# Altium schematic symbol library Interface_UART.SchLib: 133 symbols (part 1 of 2)
Pins are listed as number, name and electrical type; pins without a type are passive.

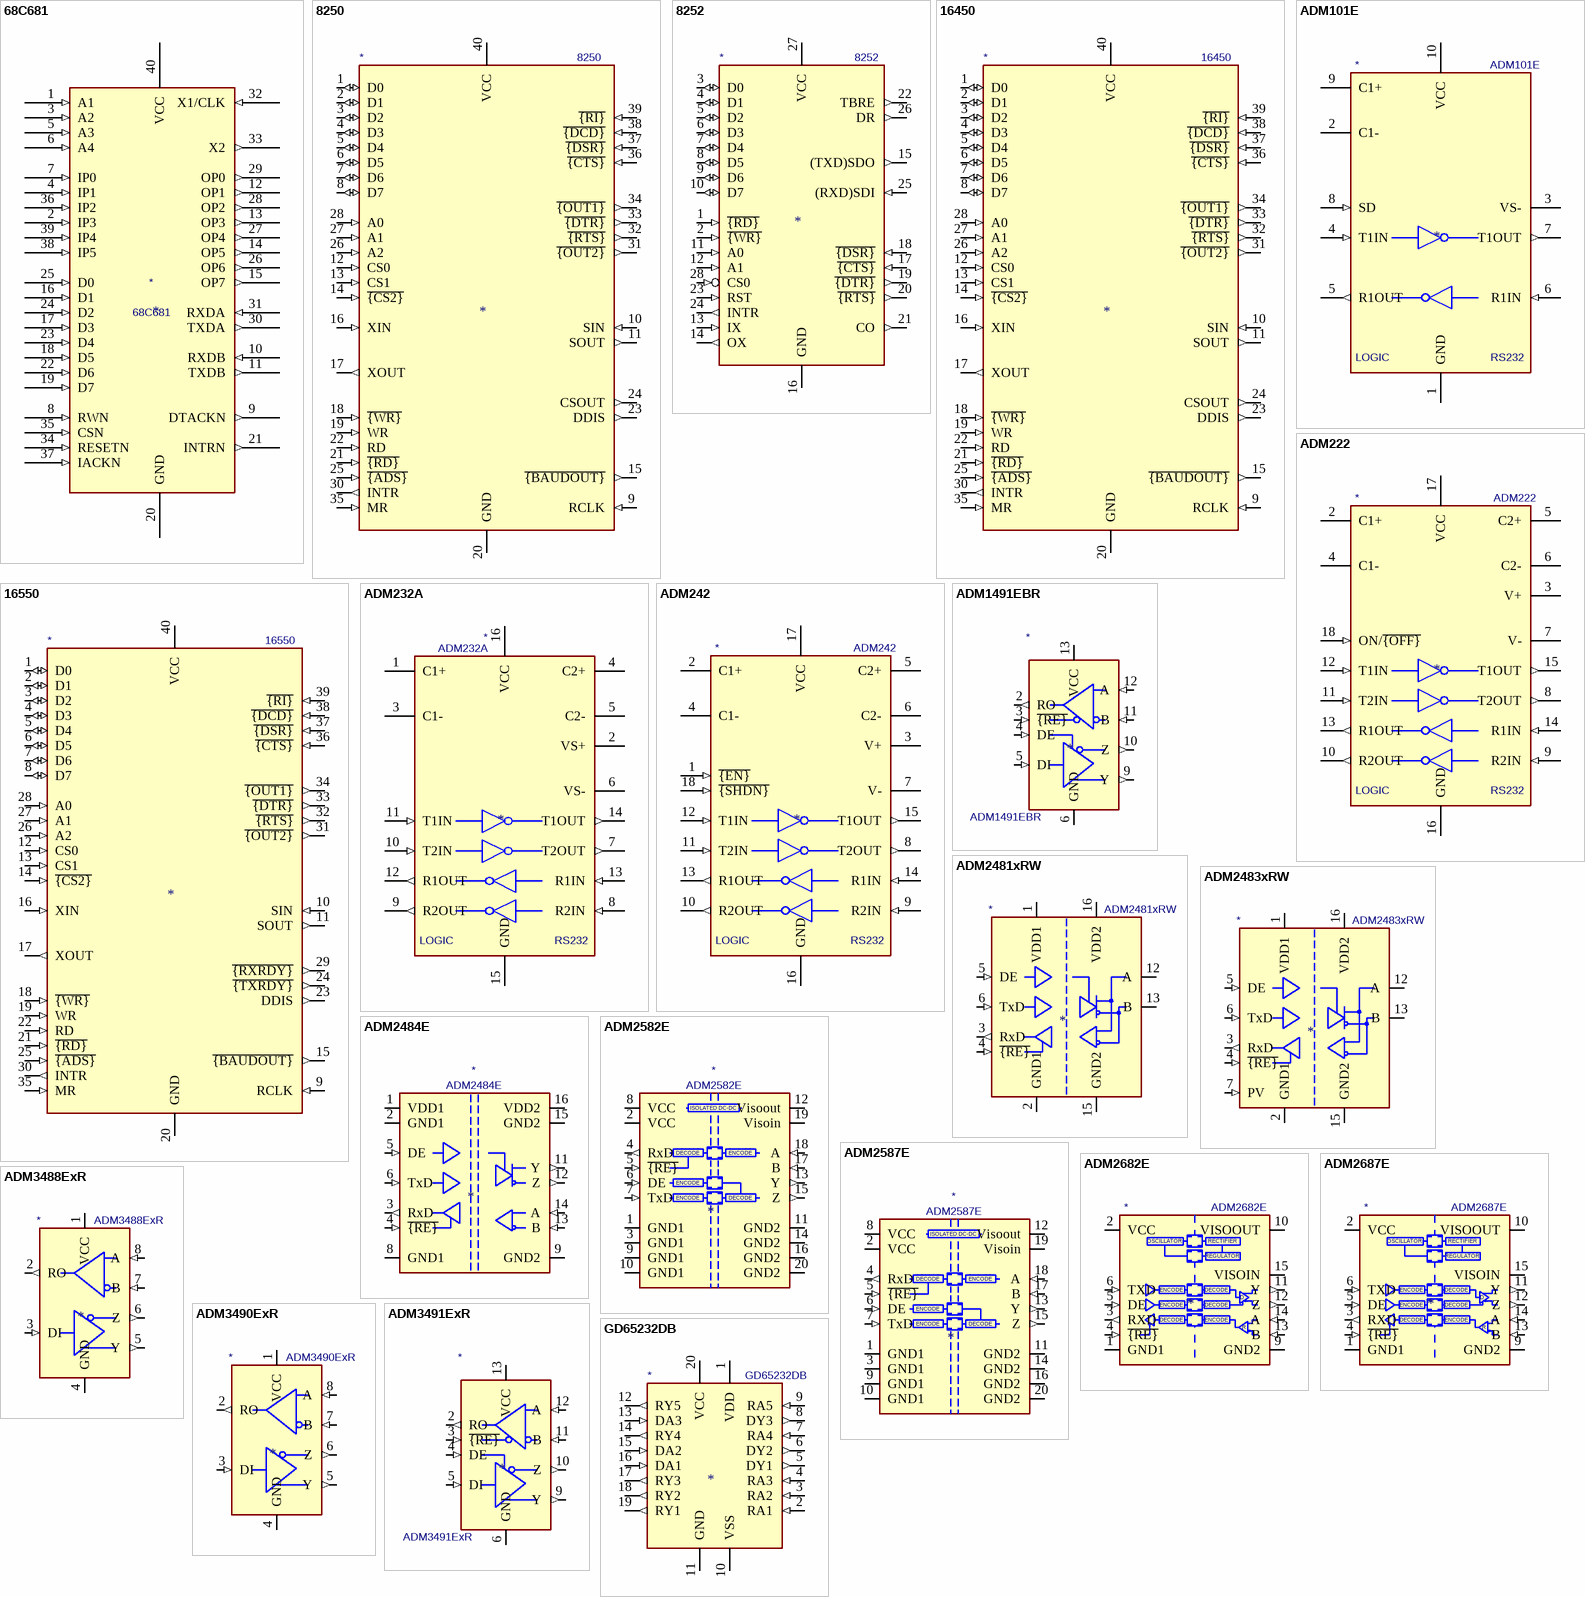
[diagram p0: symbols 68C681 to GD65232DB]

## 68C681
designator *  value 68C681
ki_keywords: UART serial; ki_description: CMOS Dual Channel UART; Supplier: https://www.elektronik.ropla.eu/pdf/stock/exa/xr68c681.pdf
pins: 1 A1 (in), 2 IP3 (in), 3 A2 (in), 4 IP1 (in), 5 A3 (in), 6 A4 (in), 7 IP0 (in), 8 RWN (in), 9 DTACKN (out), 10 RXDB (in), 11 TXDB (out), 12 OP1 (out), 13 OP3 (out), 14 OP5 (out), 15 OP7 (out), 16 D1 (in), 17 D3 (in), 18 D5 (in), 19 D7 (in), 20 GND (power), 21 INTRN (out), 22 D6 (in), 23 D4 (in), 24 D2 (in), 25 D0 (in), 26 OP6 (out), 27 OP4 (out), 28 OP2 (out), 29 OP0 (out), 30 TXDA (out), 31 RXDA (in), 32 X1/CLK (in), 33 X2 (out), 34 RESETN (in), 35 CSN (in), 36 IP2 (in), 37 IACKN (in), 38 IP5 (in), 39 IP4 (in), 40 VCC (power)

## 8250
designator *  value 8250
ki_keywords: 1ch UART; ki_description: PC8250A, Universal Asynchronous Receiver/Transmitter, PDIP-40; ki_fp_filters: DIP*W15.24mm*; Footprint: Package_DIP:DIP-40_W15.24mm
footprint DIP-40_W15.24mm
pins: 1 D0 (io), 2 D1 (io), 3 D2 (io), 4 D3 (io), 5 D4 (io), 6 D5 (io), 7 D6 (io), 8 D7 (io), 9 RCLK (in), 10 SIN (in), 11 SOUT (out), 12 CS0 (in), 13 CS1 (in), 14 ~{{CS2}} (in), 15 ~{{BAUDOUT}} (out), 16 XIN (in), 17 XOUT (out), 18 ~{{WR}} (in), 19 WR (in), 20 GND (power), 21 ~{{RD}} (in), 22 RD (in), 23 DDIS (out), 24 CSOUT (out), 25 ~{{ADS}} (in), 26 A2 (in), 27 A1 (in), 28 A0 (in), 30 INTR (out), 31 ~{{OUT2}} (out), 32 ~{{RTS}} (out), 33 ~{{DTR}} (out), 34 ~{{OUT1}} (out), 35 MR (in), 36 ~{{CTS}} (in), 37 ~{{DSR}} (in), 38 ~{{DCD}} (in), 39 ~{{RI}} (in), 40 VCC (power)

## 8252
designator *  value 8252
ki_keywords: UART Serial Interface; ki_description: Universal Asynchronous Receiver/Transmitter, PDIP-28; ki_fp_filters: DIP*W15.24mm*; Footprint: Package_DIP:DIP-28_W15.24mm
footprint DIP-28_W15.24mm
pins: 1 ~{{RD}} (in), 2 ~{{WR}} (in), 3 D0 (io), 4 D1 (io), 5 D2 (io), 6 D3 (io), 7 D4 (io), 8 D5 (io), 9 D6 (io), 10 D7 (io), 11 A0 (in), 12 A1 (in), 13 IX (in), 14 OX (out), 15 (TXD)SDO (out), 16 GND (power), 17 ~{{CTS}} (in), 18 ~{{DSR}} (in), 19 ~{{DTR}} (out), 20 ~{{RTS}} (out), 21 CO (out), 22 TBRE (out), 23 RST (in), 24 INTR (out), 25 (RXD)SDI (in), 26 DR (out), 27 VCC (power), 28 CS0 (in)

## 16450
designator *  value 16450
ki_keywords: 1ch UART; ki_description: PC16450, Universal Asynchronous Receiver/Transmitter, PDIP-40; ki_fp_filters: DIP*W15.24mm*; Footprint: Package_DIP:DIP-40_W15.24mm
footprint DIP-40_W15.24mm
pins: 1 D0 (io), 2 D1 (io), 3 D2 (io), 4 D3 (io), 5 D4 (io), 6 D5 (io), 7 D6 (io), 8 D7 (io), 9 RCLK (in), 10 SIN (in), 11 SOUT (out), 12 CS0 (in), 13 CS1 (in), 14 ~{{CS2}} (in), 15 ~{{BAUDOUT}} (out), 16 XIN (in), 17 XOUT (out), 18 ~{{WR}} (in), 19 WR (in), 20 GND (power), 21 ~{{RD}} (in), 22 RD (in), 23 DDIS (out), 24 CSOUT (out), 25 ~{{ADS}} (in), 26 A2 (in), 27 A1 (in), 28 A0 (in), 30 INTR (out), 31 ~{{OUT2}} (out), 32 ~{{RTS}} (out), 33 ~{{DTR}} (out), 34 ~{{OUT1}} (out), 35 MR (in), 36 ~{{CTS}} (in), 37 ~{{DSR}} (in), 38 ~{{DCD}} (in), 39 ~{{RI}} (in), 40 VCC (power)

## 16550
designator *  value 16550
ki_keywords: 1ch UART FIFO; ki_description: PC16550D, Universal Asynchronous Receiver/Transmitter with FIFOs, PDIP-40; ki_fp_filters: DIP*W15.24mm*; Footprint: Package_DIP:DIP-40_W15.24mm; Supplier: http://www.ti.com/lit/ds/symlink/pc16550d.pdf
footprint DIP-40_W15.24mm
pins: 1 D0 (io), 2 D1 (io), 3 D2 (io), 4 D3 (io), 5 D4 (io), 6 D5 (io), 7 D6 (io), 8 D7 (io), 9 RCLK (in), 10 SIN (in), 11 SOUT (out), 12 CS0 (in), 13 CS1 (in), 14 ~{{CS2}} (in), 15 ~{{BAUDOUT}} (out), 16 XIN (in), 17 XOUT (out), 18 ~{{WR}} (in), 19 WR (in), 20 GND (power), 21 ~{{RD}} (in), 22 RD (in), 23 DDIS (out), 24 ~{{TXRDY}} (out), 25 ~{{ADS}} (in), 26 A2 (in), 27 A1 (in), 28 A0 (in), 29 ~{{RXRDY}} (out), 30 INTR (out), 31 ~{{OUT2}} (out), 32 ~{{RTS}} (out), 33 ~{{DTR}} (out), 34 ~{{OUT1}} (out), 35 MR (in), 36 ~{{CTS}} (in), 37 ~{{DSR}} (in), 38 ~{{DCD}} (in), 39 ~{{RI}} (in), 40 VCC (power)

## ADM101E
designator *  value ADM101E
ki_keywords: rs232 uart transceiver line-driver; ki_description: Single RS232 driver/receiver, 5V supply, 460kb/s; ki_fp_filters: MSOP*; Footprint: Package_SO:MSOP-10_3x3mm_P0.5mm; Supplier: https://www.analog.com/media/en/technical-documentation/data-sheets/ADM101E.pdf
footprint MSOP-10_3x3mm_P0.5mm
pins: 1 GND (power), 2 C1-, 3 VS- (power), 4 T1IN (in), 5 R1OUT (out), 6 R1IN (in), 7 T1OUT (out), 8 SD (in), 9 C1+, 10 VCC (power)
text: LOGIC; RS232

## ADM222
designator *  value ADM222
ki_keywords: rs232 uart transceiver; ki_description: Dual RS232 driver/receiver, 5V supply, 200kb/s; ki_fp_filters: SO* DIP*W7.62mm*; Supplier: https://www.analog.com/media/en/technical-documentation/data-sheets/ADM222_232A_242.pdf
pins: 1 NC (in) hidden, 2 C1+, 3 V+ (power), 4 C1-, 5 C2+, 6 C2-, 7 V- (power), 8 T2OUT (out), 9 R2IN (in), 10 R2OUT (out), 11 T2IN (in), 12 T1IN (in), 13 R1OUT (out), 14 R1IN (in), 15 T1OUT (out), 16 GND (power), 17 VCC (power), 18 ON/~{{OFF}} (in)
text: LOGIC; RS232

## ADM232A
designator *  value ADM232A
ki_keywords: rs232 uart transceiver line-driver; ki_description: Dual RS232 driver/receiver, 5V supply, 200kb/s; ki_fp_filters: SOIC*P1.27mm* DIP*W7.62mm* TSSOP*4.4x5mm*P0.65mm*; Supplier: https://www.analog.com/media/en/technical-documentation/data-sheets/ADM222_232A_242.pdf
pins: 1 C1+, 2 VS+ (power), 3 C1-, 4 C2+, 5 C2-, 6 VS- (power), 7 T2OUT (out), 8 R2IN (in), 9 R2OUT (out), 10 T2IN (in), 11 T1IN (in), 12 R1OUT (out), 13 R1IN (in), 14 T1OUT (out), 15 GND (power), 16 VCC (power)
text: LOGIC; RS232

## ADM242
designator *  value ADM242
ki_keywords: rs232 uart transceiver; ki_description: Dual RS232 driver/receiver, 5V supply, 200kb/s, separate shutdown/enable pins; ki_fp_filters: SO* DIP*W7.62mm*; Supplier: https://www.analog.com/media/en/technical-documentation/data-sheets/ADM222_232A_242.pdf
pins: 1 ~{{EN}} (in), 2 C1+, 3 V+ (power), 4 C1-, 5 C2+, 6 C2-, 7 V- (power), 8 T2OUT (out), 9 R2IN (in), 10 R2OUT (out), 11 T2IN (in), 12 T1IN (in), 13 R1OUT (out), 14 R1IN (in), 15 T1OUT (out), 16 GND (power), 17 VCC (power), 18 ~{{SHDN}} (in)
text: LOGIC; RS232

## ADM1491EBR
designator *  value ADM1491EBR
ki_keywords: RS485 RS422 transceiver full duplex; ki_description: RS-485, RS-422 full duplex 16Mbps transceiver, SOIC-14; ki_fp_filters: SOIC*3.9x8.7mm*P1.27mm*; Footprint: Package_SO:SOIC-14_3.9x8.7mm_P1.27mm; Supplier: https://www.analog.com/media/en/technical-documentation/data-sheets/ADM1490E_1491E.pdf
footprint SOIC-14_3.9x8.7mm_P1.27mm
pins: 1 NC (in) hidden, 2 RO (out), 3 ~{{RE}} (in), 4 DE (in), 5 DI (in), 6 GND (power), 7 GND hidden, 8 NC (in) hidden, 9 Y (out), 10 Z (out), 11 B (in), 12 A (in), 13 VCC (power), 14 VCC hidden

## ADM2481xRW
designator *  value ADM2481xRW
ki_keywords: rs-485 rs-422 eia485 eia-485 eia422 eia-422 serial differential; ki_description: Isolated RS485/RS422 Transceiver, Half-Duplex, 500kbps, SOIC-16W; ki_fp_filters: SOIC*7.5x10.3mm*P1.27mm*; Footprint: Package_SO:SOIC-16W_7.5x10.3mm_P1.27mm; Supplier: https://www.analog.com/media/en/technical-documentation/data-sheets/adm2481.pdf
footprint SOIC-16W_7.5x10.3mm_P1.27mm
pins: 1 VDD1 (power), 2 GND1 (power), 3 RxD (out), 4 ~{{RE}} (in), 5 DE (in), 6 TxD (in), 7 GND1 hidden, 8 GND1 hidden, 9 GND2 hidden, 10 GND2 hidden, 11 NC (in) hidden, 12 A (io), 13 B (io), 14 NC (in) hidden, 15 GND2 (power), 16 VDD2 (power)

## ADM2483xRW
designator *  value ADM2483xRW
ki_keywords: rs-485 rs-422 eia485 eia-485 eia422 eia-422 serial differential; ki_description: Isolated RS485/RS422 Transceiver, Half-Duplex, 500kbps, SOIC-16W; ki_fp_filters: SOIC*7.5x10.3mm*P1.27mm*; Footprint: Package_SO:SOIC-16W_7.5x10.3mm_P1.27mm; Supplier: https://www.analog.com/media/en/technical-documentation/data-sheets/adm2483.pdf
footprint SOIC-16W_7.5x10.3mm_P1.27mm
pins: 1 VDD1 (power), 2 GND1 (power), 3 RxD (out), 4 ~{{RE}} (in), 5 DE (in), 6 TxD (in), 7 PV (in), 8 GND1 hidden, 9 GND2 hidden, 10 NC (in) hidden, 11 NC (in) hidden, 12 A (io), 13 B (io), 14 NC (in) hidden, 15 GND2 (power), 16 VDD2 (power)

## ADM2484E
designator *  value ADM2484E
ki_keywords: RS485 Transceiver RS422 Transceiver; ki_description: Isolated RS485/RS422 Transceiver, Half-/Full-Duplex, 500kbps,SOIC-16W; ki_fp_filters: SOIC*7.5x10.3mm*P1.27mm*; Footprint: Package_SO:SOIC-16W_7.5x10.3mm_P1.27mm; Supplier: https://www.analog.com/media/en/technical-documentation/data-sheets/ADM2484E.pdf
footprint SOIC-16W_7.5x10.3mm_P1.27mm
pins: 1 VDD1 (power), 2 GND1 (power), 3 RxD (out), 4 ~{{RE}} (in), 5 DE (in), 6 TxD (in), 7 NC (in) hidden, 8 GND1 (power), 9 GND2 (power), 10 NC (in) hidden, 11 Y (out), 12 Z (out), 13 B (in), 14 A (in), 15 GND2 (power), 16 VDD2 (power)

## ADM2582E
designator *  value ADM2582E
ki_keywords: RS485 Transceiver,RS422 Transceiver; ki_description: Isolated RS485/RS422 Transceiver,Integrated Isolated DC-DC Converter, 16Mbps,SO-20; ki_fp_filters: SOIC*7.5x12.8mm*P1.27mm*; Footprint: Package_SO:SOIC-20W_7.5x12.8mm_P1.27mm; Supplier: www.analog.com/media/en/technical-documentation/data-sheets/ADM2582E_2587E.pdf
footprint SOIC-20W_7.5x12.8mm_P1.27mm
pins: 1 GND1 (power), 2 VCC (power), 3 GND1 (power), 4 RxD (out), 5 ~{{RE}} (in), 6 DE (in), 7 TxD (in), 8 VCC (power), 9 GND1 (power), 10 GND1 (power), 11 GND2 (power), 12 Visoout (power), 13 Y (out), 14 GND2 (power), 15 Z (out), 16 GND2 (power), 17 B (in), 18 A (in), 19 Visoin (power), 20 GND2 (power)
text: ISOLATED DC-DC; DECODE; ENCODE

## ADM2587E
designator *  value ADM2587E
ki_keywords: RS485 Transceiver,RS422 Transceiver; ki_description: Isolated RS485/RS422 Transceiver,Integrated Isolated DC-DC Converter, 500kbps,SO-20; ki_fp_filters: SOIC*7.5x12.8mm*P1.27mm*; Footprint: Package_SO:SOIC-20W_7.5x12.8mm_P1.27mm; Supplier: www.analog.com/media/en/technical-documentation/data-sheets/ADM2582E_2587E.pdf
footprint SOIC-20W_7.5x12.8mm_P1.27mm
pins: 1 GND1 (power), 2 VCC (power), 3 GND1 (power), 4 RxD (out), 5 ~{{RE}} (in), 6 DE (in), 7 TxD (in), 8 VCC (power), 9 GND1 (power), 10 GND1 (power), 11 GND2 (power), 12 Visoout (power), 13 Y (out), 14 GND2 (power), 15 Z (out), 16 GND2 (power), 17 B (in), 18 A (in), 19 Visoin (power), 20 GND2 (power)
text: ISOLATED DC-DC; DECODE; ENCODE

## ADM2682E
designator *  value ADM2682E
ki_keywords: RS485 Transceiver, RS422 Transceiver, Isopower; ki_description: Isolated RS485/RS422 Transceiver, Integrated Isolated DC-DC Converter, 16Mbps, SOIC-16W; ki_fp_filters: SOIC*7.5x12.8mm*P1.27mm*; Footprint: Package_SO:SOIC-16W_7.5x12.8mm_P1.27mm; Supplier: https://www.analog.com/media/en/technical-documentation/data-sheets/ADM2682E_2687E.pdf
footprint SOIC-16W_7.5x12.8mm_P1.27mm
pins: 1 GND1 (power), 2 VCC (power), 3 RXD (out), 4 ~{{RE}} (in), 5 DE (in), 6 TXD (in), 7 VCC hidden, 8 GND1 hidden, 9 GND2 (power), 10 VISOOUT (power), 11 Y (out), 12 Z (out), 13 B (in), 14 A (in), 15 VISOIN (power), 16 GND2 hidden
text: OSCILLATOR; RECTIFIER; REGULATOR; ENCODE; DECODE; D; R

## ADM2687E
designator *  value ADM2687E
ki_keywords: RS485 Transceiver, RS422 Transceiver, Isopower; ki_description: Isolated RS485/RS422 Transceiver, Integrated Isolated DC-DC Converter, 500kbps, SOIC-16W; ki_fp_filters: SOIC*7.5x12.8mm*P1.27mm*; Footprint: Package_SO:SOIC-16W_7.5x12.8mm_P1.27mm; Supplier: https://www.analog.com/media/en/technical-documentation/data-sheets/ADM2682E_2687E.pdf
footprint SOIC-16W_7.5x12.8mm_P1.27mm
pins: 1 GND1 (power), 2 VCC (power), 3 RXD (out), 4 ~{{RE}} (in), 5 DE (in), 6 TXD (in), 7 VCC hidden, 8 GND1 hidden, 9 GND2 (power), 10 VISOOUT (power), 11 Y (out), 12 Z (out), 13 B (in), 14 A (in), 15 VISOIN (power), 16 GND2 hidden
text: OSCILLATOR; RECTIFIER; REGULATOR; ENCODE; DECODE; D; R

## ADM3488ExR
designator *  value ADM3488ExR
ki_keywords: RS485 RS422 transceiver full duplex; ki_description: RS-485, RS-422 full duplex 250 kbps transceiver, SOIC-8; ki_fp_filters: SOIC*3.9x4.9mm*P1.27mm*; Footprint: Package_SO:SOIC-8_3.9x4.9mm_P1.27mm; Supplier: https://www.analog.com/media/en/technical-documentation/data-sheets/ADM3483E_3486E_3488E_3490E_3491E.pdf
footprint SOIC-8_3.9x4.9mm_P1.27mm
pins: 1 VCC (power), 2 RO (out), 3 DI (in), 4 GND (power), 5 Y (out), 6 Z (out), 7 B (in), 8 A (in)

## ADM3490ExR
designator *  value ADM3490ExR
ki_keywords: RS485 RS422 transceiver full duplex; ki_description: RS-485, RS-422 full duplex 12 Mbps transceiver, SOIC-8; ki_fp_filters: SOIC*3.9x4.9mm*P1.27mm*; Footprint: Package_SO:SOIC-8_3.9x4.9mm_P1.27mm; Supplier: https://www.analog.com/media/en/technical-documentation/data-sheets/ADM3483E_3486E_3488E_3490E_3491E.pdf
footprint SOIC-8_3.9x4.9mm_P1.27mm
pins: 1 VCC (power), 2 RO (out), 3 DI (in), 4 GND (power), 5 Y (out), 6 Z (out), 7 B (in), 8 A (in)

## ADM3491ExR
designator *  value ADM3491ExR
ki_keywords: RS485 RS422 transceiver full duplex; ki_description: RS-485, RS-422 full duplex 12 Mbps transceiver, SOIC-14; ki_fp_filters: SOIC*3.9x8.7mm*P1.27mm*; Footprint: Package_SO:SOIC-14_3.9x8.7mm_P1.27mm; Supplier: https://www.analog.com/media/en/technical-documentation/data-sheets/ADM3483E_3486E_3488E_3490E_3491E.pdf
footprint SOIC-14_3.9x8.7mm_P1.27mm
pins: 1 NC (in) hidden, 2 RO (out), 3 ~{{RE}} (in), 4 DE (in), 5 DI (in), 6 GND (power), 7 GND hidden, 8 NC (in) hidden, 9 Y (out), 10 Z (out), 11 B (in), 12 A (in), 13 VCC (power), 14 VCC hidden

## GD65232DB
designator *  value GD65232DB
ki_keywords: RS232 UART Driver Receiver Interface; ki_description: Multiple RS-232 Driver and Receiver, SSOP-20; ki_fp_filters: SSOP*4.4x6.5mm*P0.65mm*; Footprint: Package_SO:SSOP-20_4.4x6.5mm_P0.65mm; Supplier: http://www.ti.com/lit/ds/symlink/gd75232.pdf
footprint SSOP-20_4.4x6.5mm_P0.65mm
pins: 1 VDD (power), 2 RA1 (in), 3 RA2 (in), 4 RA3 (in), 5 DY1 (out), 6 DY2 (out), 7 RA4 (in), 8 DY3 (out), 9 RA5 (in), 10 VSS (power), 11 GND (power), 12 RY5 (out), 13 DA3 (in), 14 RY4 (out), 15 DA2 (in), 16 DA1 (in), 17 RY3 (out), 18 RY2 (out), 19 RY1 (out), 20 VCC (power)

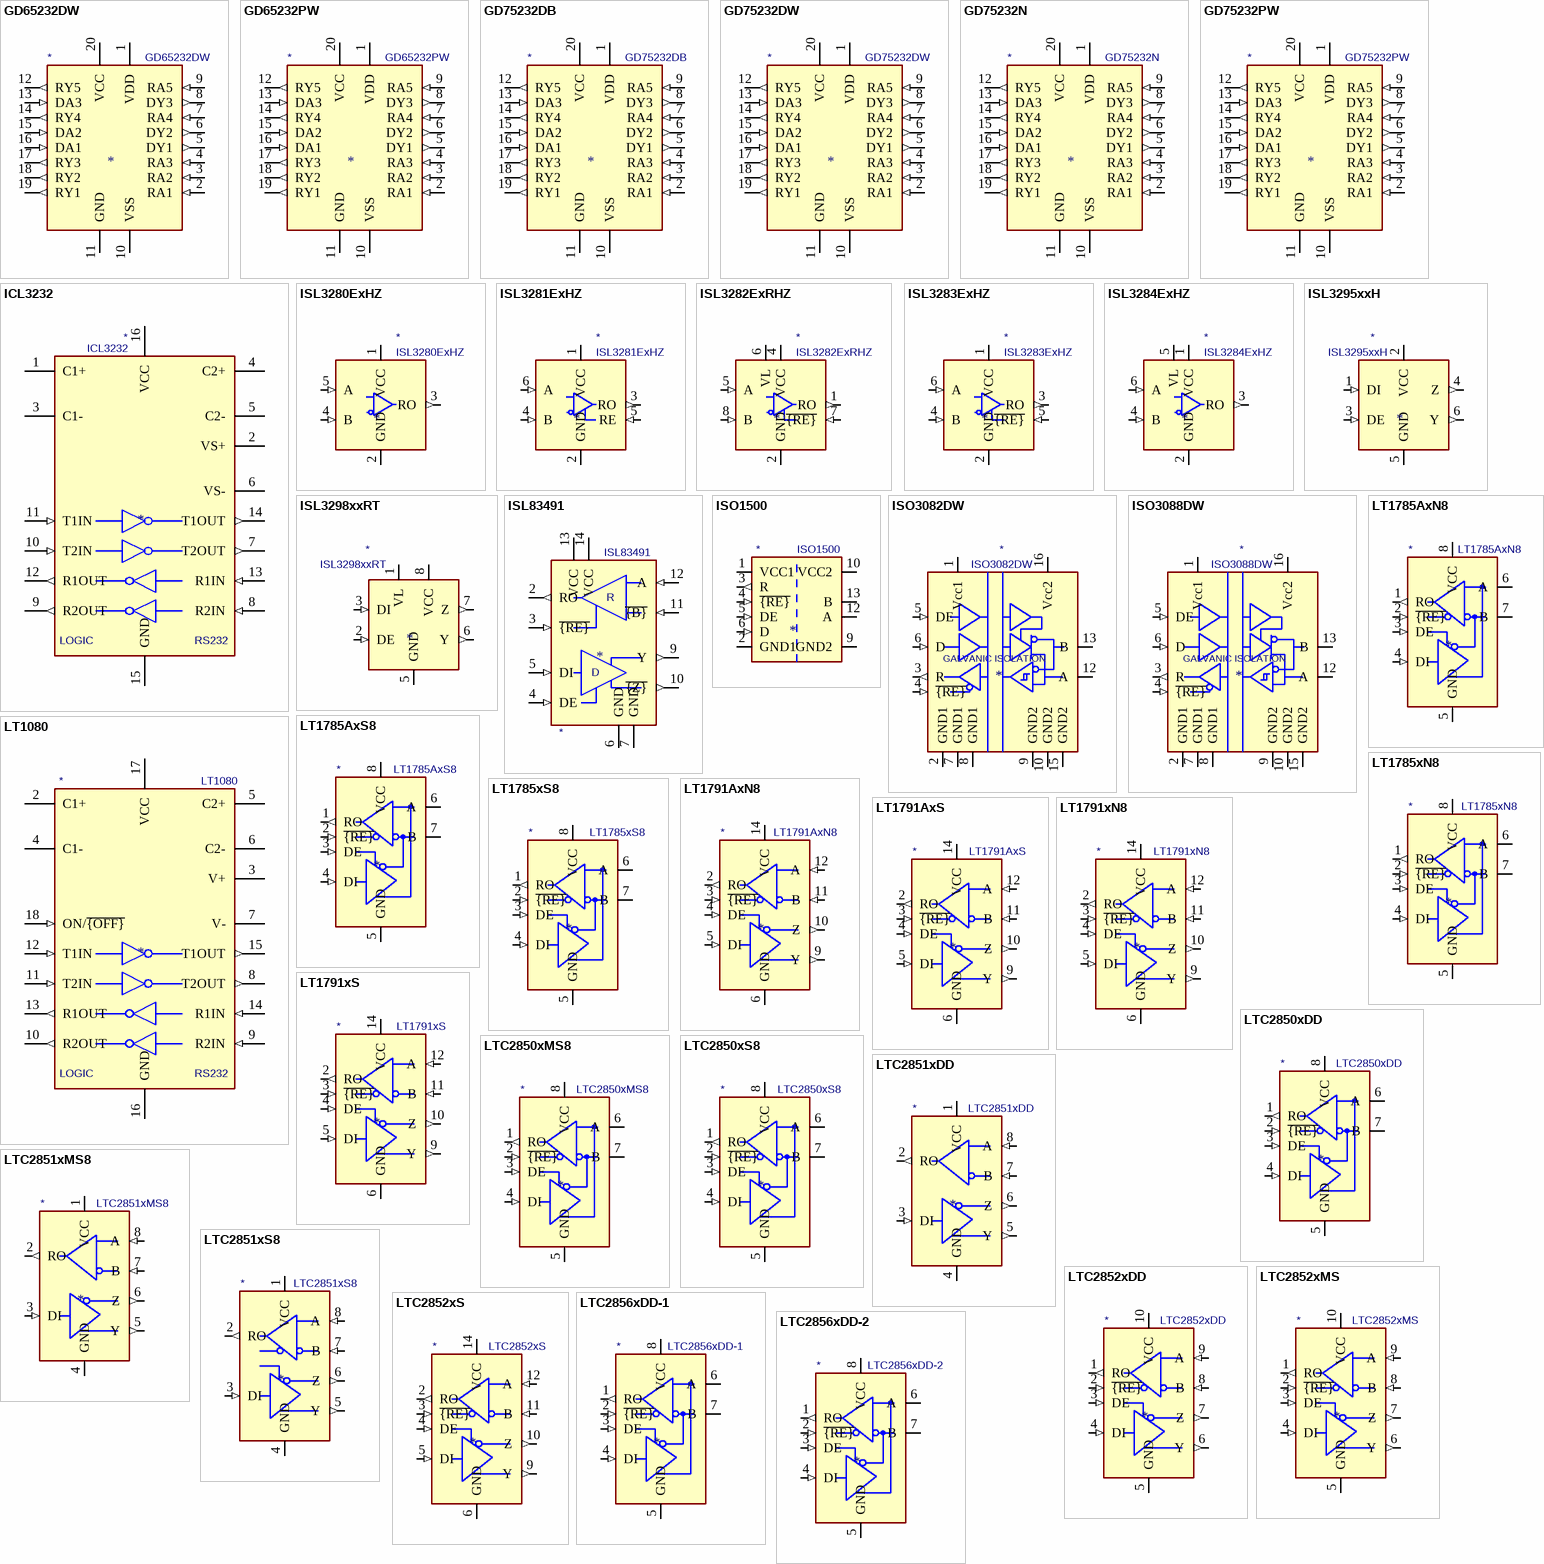
[diagram p1: symbols GD65232DW to LTC2856xDD-2]

## GD65232DW
designator *  value GD65232DW
ki_keywords: RS232 UART Driver Receiver Interface; ki_description: Multiple RS-232 Driver and Receiver, SOIC-20; ki_fp_filters: SOIC*7.5x12.8mm*P1.27mm*; Footprint: Package_SO:SOIC-20W_7.5x12.8mm_P1.27mm; Supplier: http://www.ti.com/lit/ds/symlink/gd75232.pdf
footprint SOIC-20W_7.5x12.8mm_P1.27mm
pins: 1 VDD (power), 2 RA1 (in), 3 RA2 (in), 4 RA3 (in), 5 DY1 (out), 6 DY2 (out), 7 RA4 (in), 8 DY3 (out), 9 RA5 (in), 10 VSS (power), 11 GND (power), 12 RY5 (out), 13 DA3 (in), 14 RY4 (out), 15 DA2 (in), 16 DA1 (in), 17 RY3 (out), 18 RY2 (out), 19 RY1 (out), 20 VCC (power)

## GD65232PW
designator *  value GD65232PW
ki_keywords: RS232 UART Driver Receiver Interface; ki_description: Multiple RS-232 Driver and Receiver, TSSOP-20; ki_fp_filters: TSSOP*; Footprint: Package_SO:TSSOP-20_4.4x6.5mm_P0.65mm; Supplier: http://www.ti.com/lit/ds/symlink/gd75232.pdf
footprint TSSOP-20_4.4x6.5mm_P0.65mm
pins: 1 VDD (power), 2 RA1 (in), 3 RA2 (in), 4 RA3 (in), 5 DY1 (out), 6 DY2 (out), 7 RA4 (in), 8 DY3 (out), 9 RA5 (in), 10 VSS (power), 11 GND (power), 12 RY5 (out), 13 DA3 (in), 14 RY4 (out), 15 DA2 (in), 16 DA1 (in), 17 RY3 (out), 18 RY2 (out), 19 RY1 (out), 20 VCC (power)

## GD75232DB
designator *  value GD75232DB
ki_keywords: RS232 UART Driver Receiver Interface; ki_description: Multiple RS-232 Driver and Receiver, SSOP-20; ki_fp_filters: SSOP*4.4x6.5mm*P0.65mm*; Footprint: Package_SO:SSOP-20_4.4x6.5mm_P0.65mm; Supplier: http://www.ti.com/lit/ds/symlink/gd75232.pdf
footprint SSOP-20_4.4x6.5mm_P0.65mm
pins: 1 VDD (power), 2 RA1 (in), 3 RA2 (in), 4 RA3 (in), 5 DY1 (out), 6 DY2 (out), 7 RA4 (in), 8 DY3 (out), 9 RA5 (in), 10 VSS (power), 11 GND (power), 12 RY5 (out), 13 DA3 (in), 14 RY4 (out), 15 DA2 (in), 16 DA1 (in), 17 RY3 (out), 18 RY2 (out), 19 RY1 (out), 20 VCC (power)

## GD75232DW
designator *  value GD75232DW
ki_keywords: RS232 UART Driver Receiver Interface; ki_description: Multiple RS-232 Driver and Receiver, SOIC-20; ki_fp_filters: SOIC*7.5x12.8mm*P1.27mm*; Footprint: Package_SO:SOIC-20W_7.5x12.8mm_P1.27mm; Supplier: http://www.ti.com/lit/ds/symlink/gd75232.pdf
footprint SOIC-20W_7.5x12.8mm_P1.27mm
pins: 1 VDD (power), 2 RA1 (in), 3 RA2 (in), 4 RA3 (in), 5 DY1 (out), 6 DY2 (out), 7 RA4 (in), 8 DY3 (out), 9 RA5 (in), 10 VSS (power), 11 GND (power), 12 RY5 (out), 13 DA3 (in), 14 RY4 (out), 15 DA2 (in), 16 DA1 (in), 17 RY3 (out), 18 RY2 (out), 19 RY1 (out), 20 VCC (power)

## GD75232N
designator *  value GD75232N
ki_keywords: RS232 UART Driver Receiver Interface; ki_description: Multiple RS-232 Driver and Receiver, DIP-20; ki_fp_filters: DIP*W7.62mm*; Footprint: Package_DIP:DIP-20_W7.62mm; Supplier: http://www.ti.com/lit/ds/symlink/gd75232.pdf
footprint DIP-20_W7.62mm
pins: 1 VDD (power), 2 RA1 (in), 3 RA2 (in), 4 RA3 (in), 5 DY1 (out), 6 DY2 (out), 7 RA4 (in), 8 DY3 (out), 9 RA5 (in), 10 VSS (power), 11 GND (power), 12 RY5 (out), 13 DA3 (in), 14 RY4 (out), 15 DA2 (in), 16 DA1 (in), 17 RY3 (out), 18 RY2 (out), 19 RY1 (out), 20 VCC (power)

## GD75232PW
designator *  value GD75232PW
ki_keywords: RS232 UART Driver Receiver Interface; ki_description: Multiple RS-232 Driver and Receiver, TSSOP-20; ki_fp_filters: TSSOP*; Footprint: Package_SO:TSSOP-20_4.4x6.5mm_P0.65mm; Supplier: http://www.ti.com/lit/ds/symlink/gd75232.pdf
footprint TSSOP-20_4.4x6.5mm_P0.65mm
pins: 1 VDD (power), 2 RA1 (in), 3 RA2 (in), 4 RA3 (in), 5 DY1 (out), 6 DY2 (out), 7 RA4 (in), 8 DY3 (out), 9 RA5 (in), 10 VSS (power), 11 GND (power), 12 RY5 (out), 13 DA3 (in), 14 RY4 (out), 15 DA2 (in), 16 DA1 (in), 17 RY3 (out), 18 RY2 (out), 19 RY1 (out), 20 VCC (power)

## ICL3232
designator *  value ICL3232
ki_keywords: rs232 uart transceiver line-driver; ki_description: 3.0V to 5.5V, Low-Power, up to 250kbps, True RS-232 Transceivers Using Four 0.1μF External Capacitors; ki_fp_filters: SOIC*P1.27mm* DIP*W7.62mm* TSSOP*4.4x5mm*P0.65mm*; Supplier: http://www.intersil.com/content/dam/Intersil/documents/icl3/icl3221-22-23-32-41-43.pdf
pins: 1 C1+, 2 VS+ (power), 3 C1-, 4 C2+, 5 C2-, 6 VS- (power), 7 T2OUT (out), 8 R2IN (in), 9 R2OUT (out), 10 T2IN (in), 11 T1IN (in), 12 R1OUT (out), 13 R1IN (in), 14 T1OUT (out), 15 GND (power), 16 VCC (power)
text: LOGIC; RS232

## ISL3280ExHZ
designator *  value ISL3280ExHZ
ki_keywords: Interface Driver Receiver Transceiver; ki_description: RS485, RS422, 20Mbps Transceiver, 3.0V to 5.5V, SOT-23-5; ki_fp_filters: SOT?23*; Footprint: Package_TO_SOT_SMD:SOT-23-5; Supplier: https://www.renesas.com/us/en/www/doc/datasheet/isl3280e-81e-82e-83e-84e-85e.pdf
footprint SOT-23-5
pins: 1 VCC (power), 2 GND (power), 3 RO (out), 4 B (in), 5 A (in)

## ISL3281ExHZ
designator *  value ISL3281ExHZ
ki_keywords: Interface - Driver Receiver Transceiver; ki_description: RS485, RS422, 20Mbps Transceiver, 3.0V to 5.5V, SOT-23-6; ki_fp_filters: SOT?23*; Footprint: Package_TO_SOT_SMD:SOT-23-6; Supplier: https://www.renesas.com/us/en/www/doc/datasheet/isl3280e-81e-82e-83e-84e-85e.pdf
footprint SOT-23-6
pins: 1 VCC (power), 2 GND (power), 3 RO (out), 4 B (in), 5 RE (in), 6 A (in)

## ISL3282ExRHZ
designator *  value ISL3282ExRHZ
ki_keywords: Interface Driver Receiver Transceiver; ki_description: RS485, RS422, 20Mbps Transceiver, 3.0V to 5.5V, TDFN-8; ki_fp_filters: TDFN*1EP*3x2mm*P0.5mm*; Footprint: Package_DFN_QFN:TDFN-8-1EP_3x2mm_P0.5mm_EP1.80x1.65mm; Supplier: https://www.renesas.com/us/en/www/doc/datasheet/isl3280e-81e-82e-83e-84e-85e.pdf
footprint TDFN-8-1EP_3x2mm_P0.5mm_EP1.80x1.65mm
pins: 1 RO (out), 2 GND (power), 3 NC (in) hidden, 4 VCC (power), 5 A (in), 6 VL (power), 7 ~{{RE}} (in), 8 B (in), 9 GND hidden

## ISL3283ExHZ
designator *  value ISL3283ExHZ
ki_keywords: Interface Driver Receiver Transceiver; ki_description: RS485, RS422, 20Mbps Transceiver, 3.0V to 5.5V, SOT-23-6; ki_fp_filters: SOT?23*; Footprint: Package_TO_SOT_SMD:SOT-23-6; Supplier: https://www.renesas.com/us/en/www/doc/datasheet/isl3280e-81e-82e-83e-84e-85e.pdf
footprint SOT-23-6
pins: 1 VCC (power), 2 GND (power), 3 RO (out), 4 B (in), 5 ~{{RE}} (in), 6 A (in)

## ISL3284ExHZ
designator *  value ISL3284ExHZ
ki_keywords: Interface Driver Receiver Transceiver; ki_description: RS485, RS422, 20Mbps Transceiver, 3.0V to 5.5V, SOT-23-6; ki_fp_filters: SOT?23*; Footprint: Package_TO_SOT_SMD:SOT-23-6; Supplier: https://www.renesas.com/us/en/www/doc/datasheet/isl3280e-81e-82e-83e-84e-85e.pdf
footprint SOT-23-6
pins: 1 VCC (power), 2 GND (power), 3 RO (out), 4 B (in), 5 VL (power), 6 A (in)

## ISL3295xxH
designator *  value ISL3295xxH
ki_keywords: RS485 RS422 transceiver; ki_description: RS485, RS422, 20Mbps Transceiver, 3.0V to 7V, Low-Power, SOT-23; ki_fp_filters: SOT?23*; Footprint: Package_TO_SOT_SMD:SOT-23-6; Supplier: https://www.renesas.com/sg/en/www/doc/datasheet/isl3295e-98e.pdf
footprint SOT-23-6
pins: 1 DI (in), 2 VCC (power), 3 DE (in), 4 Z (out), 5 GND (power), 6 Y (out)

## ISL3298xxRT
designator *  value ISL3298xxRT
ki_keywords: RS485 RS422 transceiver; ki_description: RS485, RS422, 20Mbps Transceiver, 3.0V to 7V, Low-Power, TDFN-8; ki_fp_filters: TDFN*1EP*3x2mm*P0.5mm*; Footprint: Package_DFN_QFN:TDFN-8-1EP_3x2mm_P0.5mm_EP1.80x1.65mm; Supplier: https://www.renesas.com/sg/en/www/doc/datasheet/isl3295e-98e.pdf
footprint TDFN-8-1EP_3x2mm_P0.5mm_EP1.80x1.65mm
pins: 1 VL (power), 2 DE (in), 3 DI (in), 4 GND hidden, 5 GND (power), 6 Y (out), 7 Z (out), 8 VCC (power), 9 GND hidden

## ISL83491
designator *  value ISL83491
ki_keywords: RS485 RS422 transceiver full duplex; ki_description: 10Mbps RS485/RS422 transceiver, full duplex, receiver/driver enable, low power shutdown; ki_fp_filters: SOIC* DIP*W7.62mm*; Supplier: http://www.intersil.com/content/dam/Intersil/documents/isl8/isl83483-85-88-90-91.pdf
pins: 2 RO (out), 3 ~{{RE}} (in), 4 DE (in), 5 DI (in), 6 GND (power), 7 GND (power), 9 Y (out), 10 ~{{Z}} (out), 11 ~{{B}} (in), 12 A (in), 13 VCC (power), 14 VCC (power)
text: R; D

## ISO1500
designator *  value ISO1500
ki_keywords: RS-485 RS422 transceiver isolated; ki_description: Half duplex RS-485/RS-422 transceiver, 3-kVRMS Isolated, SSOP-16; ki_fp_filters: SSOP*3.9x4.9mm*P0.635mm*; Footprint: Package_SO:SSOP-16_3.9x4.9mm_P0.635mm; Supplier: http://www.ti.com/lit/ds/symlink/iso1500.pdf
footprint SSOP-16_3.9x4.9mm_P0.635mm
pins: 1 VCC1 (power), 2 GND1 (power), 3 R (out), 4 ~{{RE}} (in), 5 DE (in), 6 D (in), 7 NC (in) hidden, 8 GND1 hidden, 9 GND2 (power), 10 VCC2 (power), 11 NC (in) hidden, 12 A (io), 13 B (io), 14 NC (in) hidden, 15 GND2 hidden, 16 VCC2 hidden

## ISO3082DW
designator *  value ISO3082DW
ki_keywords: RS-485; ki_description: 200 kbps, Isolated 5-V Half-Duplex RS-485 transceiver, SOIC-16; ki_fp_filters: SOIC*7.5x10.3mm*P1.27mm*; Footprint: Package_SO:SOIC-16W_7.5x10.3mm_P1.27mm; Supplier: http://www.ti.com/lit/ds/symlink/iso3082.pdf
footprint SOIC-16W_7.5x10.3mm_P1.27mm
pins: 1 Vcc1 (power), 2 GND1 (power), 3 R (out), 4 ~{{RE}} (in), 5 DE (in), 6 D (in), 7 GND1 (power), 8 GND1 (power), 9 GND2 (power), 10 GND2 (power), 11 NC (in) hidden, 12 A (io), 13 B (io), 14 NC (in) hidden, 15 GND2 (power), 16 Vcc2 (power)
text: GALVANIC ISOLATION

## ISO3088DW
designator *  value ISO3088DW
ki_keywords: RS-485; ki_description: 20 Mbps, Isolated 5-V Half-Duplex RS-485 transceiver, SOIC-16; ki_fp_filters: SOIC*7.5x10.3mm*P1.27mm*; Footprint: Package_SO:SOIC-16W_7.5x10.3mm_P1.27mm; Supplier: http://www.ti.com/lit/ds/symlink/iso3082.pdf
footprint SOIC-16W_7.5x10.3mm_P1.27mm
pins: 1 Vcc1 (power), 2 GND1 (power), 3 R (out), 4 ~{{RE}} (in), 5 DE (in), 6 D (in), 7 GND1 (power), 8 GND1 (power), 9 GND2 (power), 10 GND2 (power), 11 NC (in) hidden, 12 A (io), 13 B (io), 14 NC (in) hidden, 15 GND2 (power), 16 Vcc2 (power)
text: GALVANIC ISOLATION

## LT1080
designator *  value LT1080
ki_keywords: rs232 uart transceiver; ki_description: Dual RS232 driver/receiver, 5V supply, 120kb/s; ki_fp_filters: SO* DIP*W7.62mm*; Supplier: https://www.analog.com/media/en/technical-documentation/data-sheets/10801fe.pdf
pins: 1 NC (in) hidden, 2 C1+, 3 V+ (power), 4 C1-, 5 C2+, 6 C2-, 7 V- (power), 8 T2OUT (out), 9 R2IN (in), 10 R2OUT (out), 11 T2IN (in), 12 T1IN (in), 13 R1OUT (out), 14 R1IN (in), 15 T1OUT (out), 16 GND (power), 17 VCC (power), 18 ON/~{{OFF}} (in)
text: LOGIC; RS232

## LT1785AxN8
designator *  value LT1785AxN8
ki_keywords: RS485 RS422 transceiver half duplex; ki_description: RS-485, RS-422 Half duplex 250kbps transceiver, fail-safe receiver, DIP-8; ki_fp_filters: DIP*W7.62mm*; Footprint: Package_DIP:DIP-8_W7.62mm; Supplier: https://www.analog.com/media/en/technical-documentation/data-sheets/LT1785-1785A-1791-1791A.pdf
footprint DIP-8_W7.62mm
pins: 1 RO (out), 2 ~{{RE}} (in), 3 DE (in), 4 DI (in), 5 GND (power), 6 A (io), 7 B (io), 8 VCC (power)

## LT1785AxS8
designator *  value LT1785AxS8
ki_keywords: RS485 RS422 transceiver half duplex; ki_description: RS-485, RS-422 Half duplex 250kbps transceiver, fail-safe receiver, SOIC-8; ki_fp_filters: SOIC*3.9x4.9mm*P1.27mm*; Footprint: Package_SO:SOIC-8_3.9x4.9mm_P1.27mm; Supplier: https://www.analog.com/media/en/technical-documentation/data-sheets/LT1785-1785A-1791-1791A.pdf
footprint SOIC-8_3.9x4.9mm_P1.27mm
pins: 1 RO (out), 2 ~{{RE}} (in), 3 DE (in), 4 DI (in), 5 GND (power), 6 A (io), 7 B (io), 8 VCC (power)

## LT1785xN8
designator *  value LT1785xN8
ki_keywords: RS485 RS422 transceiver half duplex; ki_description: RS-485, RS-422 Half duplex 250kbps transceiver, DIP-8; ki_fp_filters: DIP*W7.62mm*; Footprint: Package_DIP:DIP-8_W7.62mm; Supplier: https://www.analog.com/media/en/technical-documentation/data-sheets/LT1785-1785A-1791-1791A.pdf
footprint DIP-8_W7.62mm
pins: 1 RO (out), 2 ~{{RE}} (in), 3 DE (in), 4 DI (in), 5 GND (power), 6 A (io), 7 B (io), 8 VCC (power)

## LT1785xS8
designator *  value LT1785xS8
ki_keywords: RS485 RS422 transceiver half duplex; ki_description: RS-485, RS-422 Half duplex 250kbps transceiver, SOIC-8; ki_fp_filters: SOIC*3.9x4.9mm*P1.27mm*; Footprint: Package_SO:SOIC-8_3.9x4.9mm_P1.27mm; Supplier: https://www.analog.com/media/en/technical-documentation/data-sheets/LT1785-1785A-1791-1791A.pdf
footprint SOIC-8_3.9x4.9mm_P1.27mm
pins: 1 RO (out), 2 ~{{RE}} (in), 3 DE (in), 4 DI (in), 5 GND (power), 6 A (io), 7 B (io), 8 VCC (power)

## LT1791AxN8
designator *  value LT1791AxN8
ki_keywords: RS485 RS422 transceiver full duplex; ki_description: RS-485, RS-422 Full duplex 250kbps transceiver, fail-safe receiver, DIP-14; ki_fp_filters: DIP*W7.62mm*; Footprint: Package_DIP:DIP-14_W7.62mm; Supplier: https://www.analog.com/media/en/technical-documentation/data-sheets/LT1785-1785A-1791-1791A.pdf
footprint DIP-14_W7.62mm
pins: 1 NC (in) hidden, 2 RO (out), 3 ~{{RE}} (in), 4 DE (in), 5 DI (in), 6 GND (power), 7 GND hidden, 8 NC (in) hidden, 9 Y (out), 10 Z (out), 11 B (in), 12 A (in), 13 NC (in) hidden, 14 VCC (power)

## LT1791AxS
designator *  value LT1791AxS
ki_keywords: RS485 RS422 transceiver full duplex; ki_description: RS-485, RS-422 Full duplex 250kbps transceiver, fail-safe receiver, SOIC-14; ki_fp_filters: SOIC*3.9x8.7mm*P1.27mm*; Footprint: Package_SO:SOIC-14_3.9x8.7mm_P1.27mm; Supplier: https://www.analog.com/media/en/technical-documentation/data-sheets/LT1785-1785A-1791-1791A.pdf
footprint SOIC-14_3.9x8.7mm_P1.27mm
pins: 1 NC (in) hidden, 2 RO (out), 3 ~{{RE}} (in), 4 DE (in), 5 DI (in), 6 GND (power), 7 GND hidden, 8 NC (in) hidden, 9 Y (out), 10 Z (out), 11 B (in), 12 A (in), 13 NC (in) hidden, 14 VCC (power)

## LT1791xN8
designator *  value LT1791xN8
ki_keywords: RS485 RS422 transceiver full duplex; ki_description: RS-485, RS-422 Full duplex 250kbps transceiver, DIP-14; ki_fp_filters: DIP*W7.62mm*; Footprint: Package_DIP:DIP-14_W7.62mm; Supplier: https://www.analog.com/media/en/technical-documentation/data-sheets/285012fe.pdf
footprint DIP-14_W7.62mm
pins: 1 NC (in) hidden, 2 RO (out), 3 ~{{RE}} (in), 4 DE (in), 5 DI (in), 6 GND (power), 7 GND hidden, 8 NC (in) hidden, 9 Y (out), 10 Z (out), 11 B (in), 12 A (in), 13 NC (in) hidden, 14 VCC (power)

## LT1791xS
designator *  value LT1791xS
ki_keywords: RS485 RS422 transceiver full duplex; ki_description: RS-485, RS-422 Full duplex 250kbps transceiver, SOIC-14; ki_fp_filters: SOIC*3.9x8.7mm*P1.27mm*; Footprint: Package_SO:SOIC-14_3.9x8.7mm_P1.27mm; Supplier: https://www.analog.com/media/en/technical-documentation/data-sheets/LT1785-1785A-1791-1791A.pdf
footprint SOIC-14_3.9x8.7mm_P1.27mm
pins: 1 NC (in) hidden, 2 RO (out), 3 ~{{RE}} (in), 4 DE (in), 5 DI (in), 6 GND (power), 7 GND hidden, 8 NC (in) hidden, 9 Y (out), 10 Z (out), 11 B (in), 12 A (in), 13 NC (in) hidden, 14 VCC (power)

## LTC2850xDD
designator *  value LTC2850xDD
ki_keywords: RS485 RS422 transceiver half duplex; ki_description: RS-485, RS-422 Half duplex 20Mbps transceiver, DFN-8; ki_fp_filters: DFN*3x3mm*P0.5mm*; Footprint: Package_DFN_QFN:DFN-8-1EP_3x3mm_P0.5mm_EP1.66x2.38mm; Supplier: https://www.analog.com/media/en/technical-documentation/data-sheets/285012fe.pdf
footprint DFN-8-1EP_3x3mm_P0.5mm_EP1.66x2.38mm
pins: 1 RO (out), 2 ~{{RE}} (in), 3 DE (in), 4 DI (in), 5 GND (power), 6 A (io), 7 B (io), 8 VCC (power), 9 GND hidden

## LTC2850xMS8
designator *  value LTC2850xMS8
ki_keywords: RS485 RS422 transceiver half duplex; ki_description: RS-485, RS-422 Half duplex 20Mbps transceiver, MSOP-8; ki_fp_filters: MSOP*3x3mm*P0.65mm*; Footprint: Package_SO:MSOP-8_3x3mm_P0.65mm; Supplier: https://www.analog.com/media/en/technical-documentation/data-sheets/285012fe.pdf
footprint MSOP-8_3x3mm_P0.65mm
pins: 1 RO (out), 2 ~{{RE}} (in), 3 DE (in), 4 DI (in), 5 GND (power), 6 A (io), 7 B (io), 8 VCC (power)

## LTC2850xS8
designator *  value LTC2850xS8
ki_keywords: RS485 RS422 transceiver half duplex; ki_description: RS-485, RS-422 Half duplex 20Mbps transceiver, SOIC-8; ki_fp_filters: SOIC*3.9x4.9mm*P1.27mm*; Footprint: Package_SO:SOIC-8_3.9x4.9mm_P1.27mm; Supplier: https://www.analog.com/media/en/technical-documentation/data-sheets/285012fe.pdf
footprint SOIC-8_3.9x4.9mm_P1.27mm
pins: 1 RO (out), 2 ~{{RE}} (in), 3 DE (in), 4 DI (in), 5 GND (power), 6 A (io), 7 B (io), 8 VCC (power)

## LTC2851xDD
designator *  value LTC2851xDD
ki_keywords: RS485 RS422 transceiver full duplex; ki_description: RS-485, RS-422 Full duplex 20Mbps transceiver, DFN-8; ki_fp_filters: DFN*3x3mm*P0.5mm*; Footprint: Package_DFN_QFN:DFN-8-1EP_3x3mm_P0.5mm_EP1.66x2.38mm; Supplier: https://www.analog.com/media/en/technical-documentation/data-sheets/285012fe.pdf
footprint DFN-8-1EP_3x3mm_P0.5mm_EP1.66x2.38mm
pins: 1 VCC (power), 2 RO (out), 3 DI (in), 4 GND (power), 5 Y (out), 6 Z (out), 7 B (in), 8 A (in), 9 GND hidden

## LTC2851xMS8
designator *  value LTC2851xMS8
ki_keywords: RS485 RS422 transceiver full duplex; ki_description: RS-485, RS-422 Full duplex 20Mbps transceiver, MSOP-8; ki_fp_filters: MSOP*3x3mm*P0.65mm*; Footprint: Package_SO:MSOP-8_3x3mm_P0.65mm; Supplier: https://www.analog.com/media/en/technical-documentation/data-sheets/285012fe.pdf
footprint MSOP-8_3x3mm_P0.65mm
pins: 1 VCC (power), 2 RO (out), 3 DI (in), 4 GND (power), 5 Y (out), 6 Z (out), 7 B (in), 8 A (in)

## LTC2851xS8
designator *  value LTC2851xS8
ki_keywords: RS485 RS422 transceiver full duplex; ki_description: RS-485, RS-422 Full duplex 20Mbps transceiver, SOIC-8; ki_fp_filters: SOIC*3.9x4.9mm*P1.27mm*; Footprint: Package_SO:SOIC-8_3.9x4.9mm_P1.27mm; Supplier: https://www.analog.com/media/en/technical-documentation/data-sheets/285012fe.pdf
footprint SOIC-8_3.9x4.9mm_P1.27mm
pins: 1 VCC (power), 2 RO (out), 3 DI (in), 4 GND (power), 5 Y (out), 6 Z (out), 7 B (in), 8 A (in)

## LTC2852xDD
designator *  value LTC2852xDD
ki_keywords: RS485 RS422 transceiver full duplex; ki_description: RS-485, RS-422 Full duplex 20Mbps transceiver, DFN-10; ki_fp_filters: DFN*3x3mm*P0.5mm*; Footprint: Package_DFN_QFN:DFN-10-1EP_3x3mm_P0.5mm_EP1.65x2.38mm; Supplier: https://www.analog.com/media/en/technical-documentation/data-sheets/285012fe.pdf
footprint DFN-10-1EP_3x3mm_P0.5mm_EP1.65x2.38mm
pins: 1 RO (out), 2 ~{{RE}} (in), 3 DE (in), 4 DI (in), 5 GND (power), 6 Y (out), 7 Z (out), 8 B (in), 9 A (in), 10 VCC (power), 11 GND hidden

## LTC2852xMS
designator *  value LTC2852xMS
ki_keywords: RS485 RS422 transceiver full duplex; ki_description: RS-485, RS-422 Full duplex 20Mbps transceiver, MSOP-10; ki_fp_filters: MSOP*3x3mm*P0.5mm*; Footprint: Package_SO:MSOP-10_3x3mm_P0.5mm; Supplier: https://www.analog.com/media/en/technical-documentation/data-sheets/285012fe.pdf
footprint MSOP-10_3x3mm_P0.5mm
pins: 1 RO (out), 2 ~{{RE}} (in), 3 DE (in), 4 DI (in), 5 GND (power), 6 Y (out), 7 Z (out), 8 B (in), 9 A (in), 10 VCC (power)

## LTC2852xS
designator *  value LTC2852xS
ki_keywords: RS485 RS422 transceiver full duplex; ki_description: RS-485, RS-422 Full duplex 20Mbps transceiver, SOIC-14; ki_fp_filters: SOIC*3.9x8.7mm*P1.27mm*; Footprint: Package_SO:SOIC-14_3.9x8.7mm_P1.27mm; Supplier: https://www.analog.com/media/en/technical-documentation/data-sheets/285012fe.pdf
footprint SOIC-14_3.9x8.7mm_P1.27mm
pins: 1 NC (in) hidden, 2 RO (out), 3 ~{{RE}} (in), 4 DE (in), 5 DI (in), 6 GND (power), 7 GND hidden, 8 NC (in) hidden, 9 Y (out), 10 Z (out), 11 B (in), 12 A (in), 13 NC (in) hidden, 14 VCC (power)

## LTC2856xDD-1
designator *  value LTC2856xDD-1
ki_keywords: RS485 RS422 transceiver half duplex; ki_description: RS-485, RS-422 Half duplex 20Mbps transceiver, DFN-8; ki_fp_filters: DFN*3x3mm*P0.5mm*; Footprint: Package_DFN_QFN:DFN-8-1EP_3x3mm_P0.5mm_EP1.66x2.38mm; Supplier: https://www.analog.com/media/en/technical-documentation/data-sheets/285678fg.pdf
footprint DFN-8-1EP_3x3mm_P0.5mm_EP1.66x2.38mm
pins: 1 RO (out), 2 ~{{RE}} (in), 3 DE (in), 4 DI (in), 5 GND (power), 6 A (io), 7 B (io), 8 VCC (power), 9 GND hidden

## LTC2856xDD-2
designator *  value LTC2856xDD-2
ki_keywords: RS485 RS422 transceiver half duplex; ki_description: RS-485, RS-422 Half duplex 250kbps transceiver, DFN-8; ki_fp_filters: DFN*3x3mm*P0.5mm*; Footprint: Package_DFN_QFN:DFN-8-1EP_3x3mm_P0.5mm_EP1.66x2.38mm; Supplier: https://www.analog.com/media/en/technical-documentation/data-sheets/285678fg.pdf
footprint DFN-8-1EP_3x3mm_P0.5mm_EP1.66x2.38mm
pins: 1 RO (out), 2 ~{{RE}} (in), 3 DE (in), 4 DI (in), 5 GND (power), 6 A (io), 7 B (io), 8 VCC (power), 9 GND hidden

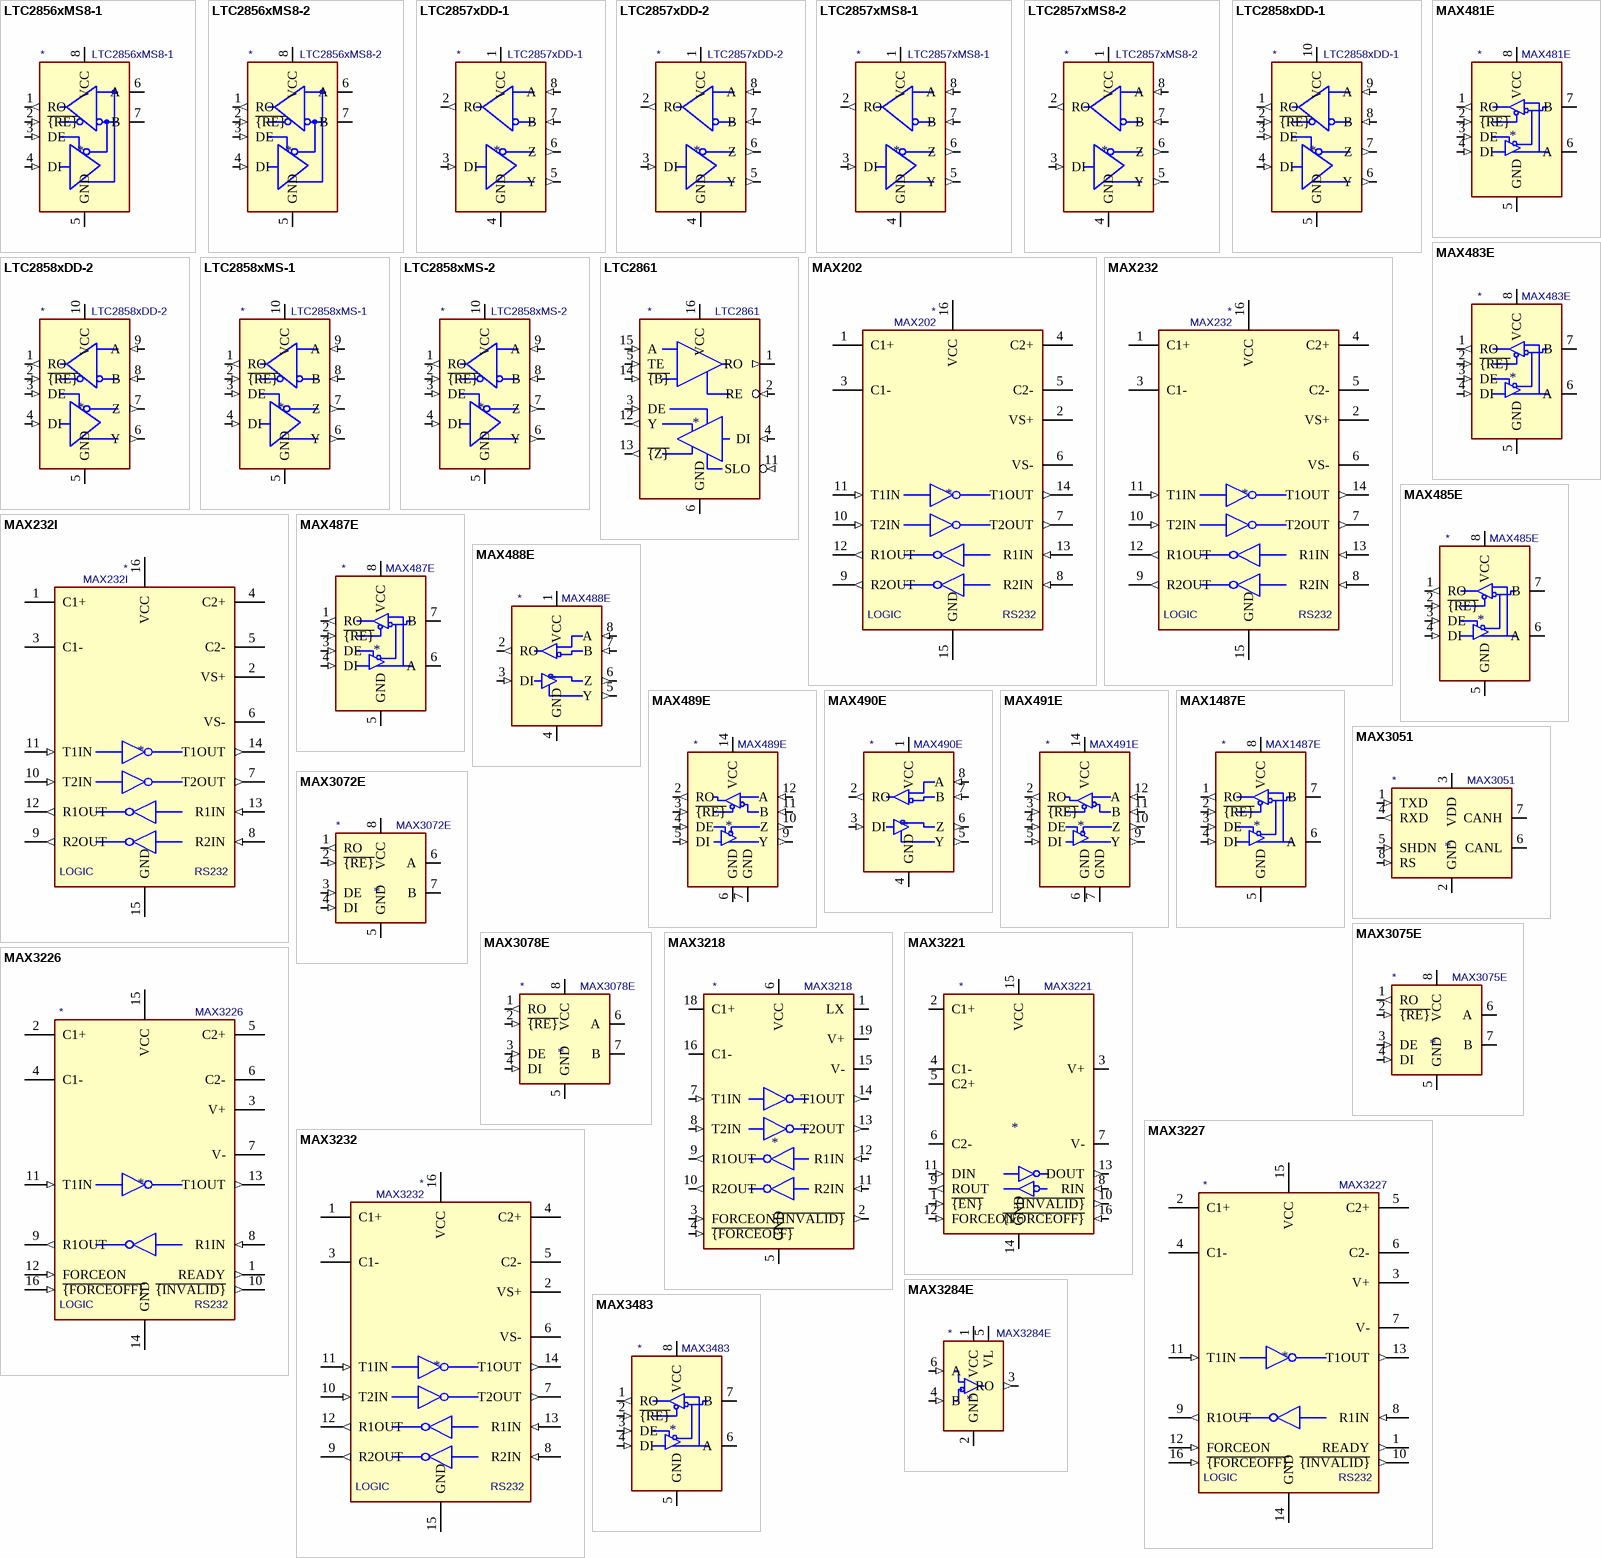
[diagram p2: symbols LTC2856xMS8-1 to MAX3483]

## LTC2856xMS8-1
designator *  value LTC2856xMS8-1
ki_keywords: RS485 RS422 transceiver half duplex; ki_description: RS-485, RS-422 Half duplex 20Mbps transceiver, MSOP-8; ki_fp_filters: MSOP*3x3mm*P0.65mm*; Footprint: Package_SO:MSOP-8_3x3mm_P0.65mm; Supplier: https://www.analog.com/media/en/technical-documentation/data-sheets/285678fg.pdf
footprint MSOP-8_3x3mm_P0.65mm
pins: 1 RO (out), 2 ~{{RE}} (in), 3 DE (in), 4 DI (in), 5 GND (power), 6 A (io), 7 B (io), 8 VCC (power)

## LTC2856xMS8-2
designator *  value LTC2856xMS8-2
ki_keywords: RS485 RS422 transceiver half duplex; ki_description: RS-485, RS-422 Half duplex 250kbps transceiver, MSOP-8; ki_fp_filters: MSOP*3x3mm*P0.65mm*; Footprint: Package_SO:MSOP-8_3x3mm_P0.65mm; Supplier: https://www.analog.com/media/en/technical-documentation/data-sheets/285678fg.pdf
footprint MSOP-8_3x3mm_P0.65mm
pins: 1 RO (out), 2 ~{{RE}} (in), 3 DE (in), 4 DI (in), 5 GND (power), 6 A (io), 7 B (io), 8 VCC (power)

## LTC2857xDD-1
designator *  value LTC2857xDD-1
ki_keywords: RS485 RS422 transceiver full duplex; ki_description: RS-485, RS-422 Full duplex 250kbps transceiver, DFN-8; ki_fp_filters: DFN*3x3mm*P0.5mm*; Footprint: Package_DFN_QFN:DFN-8-1EP_3x3mm_P0.5mm_EP1.66x2.38mm; Supplier: https://www.analog.com/media/en/technical-documentation/data-sheets/285678fg.pdf
footprint DFN-8-1EP_3x3mm_P0.5mm_EP1.66x2.38mm
pins: 1 VCC (power), 2 RO (out), 3 DI (in), 4 GND (power), 5 Y (out), 6 Z (out), 7 B (in), 8 A (in), 9 GND hidden

## LTC2857xDD-2
designator *  value LTC2857xDD-2
ki_keywords: RS485 RS422 transceiver full duplex; ki_description: RS-485, RS-422 Full duplex 250kbps transceiver, DFN-8; ki_fp_filters: DFN*3x3mm*P0.5mm*; Footprint: Package_DFN_QFN:DFN-8-1EP_3x3mm_P0.5mm_EP1.66x2.38mm; Supplier: https://www.analog.com/media/en/technical-documentation/data-sheets/285012fe.pdf
footprint DFN-8-1EP_3x3mm_P0.5mm_EP1.66x2.38mm
pins: 1 VCC (power), 2 RO (out), 3 DI (in), 4 GND (power), 5 Y (out), 6 Z (out), 7 B (in), 8 A (in), 9 GND hidden

## LTC2857xMS8-1
designator *  value LTC2857xMS8-1
ki_keywords: RS485 RS422 transceiver full duplex; ki_description: RS-485, RS-422 Full duplex 20Mbps transceiver, MSOP-8; ki_fp_filters: MSOP*3x3mm*P0.65mm*; Footprint: Package_SO:MSOP-8_3x3mm_P0.65mm; Supplier: https://www.analog.com/media/en/technical-documentation/data-sheets/285678fg.pdf
footprint MSOP-8_3x3mm_P0.65mm
pins: 1 VCC (power), 2 RO (out), 3 DI (in), 4 GND (power), 5 Y (out), 6 Z (out), 7 B (in), 8 A (in)

## LTC2857xMS8-2
designator *  value LTC2857xMS8-2
ki_keywords: RS485 RS422 transceiver full duplex; ki_description: RS-485, RS-422 Full duplex 250kbps transceiver, MSOP-8; ki_fp_filters: MSOP*3x3mm*P0.65mm*; Footprint: Package_SO:MSOP-8_3x3mm_P0.65mm; Supplier: https://www.analog.com/media/en/technical-documentation/data-sheets/285678fg.pdf
footprint MSOP-8_3x3mm_P0.65mm
pins: 1 VCC (power), 2 RO (out), 3 DI (in), 4 GND (power), 5 Y (out), 6 Z (out), 7 B (in), 8 A (in)

## LTC2858xDD-1
designator *  value LTC2858xDD-1
ki_keywords: RS485 RS422 transceiver full duplex; ki_description: RS-485, RS-422 Full duplex 20Mbps transceiver, DFN-10; ki_fp_filters: DFN*3x3mm*P0.5mm*; Footprint: Package_DFN_QFN:DFN-10-1EP_3x3mm_P0.5mm_EP1.65x2.38mm; Supplier: https://www.analog.com/media/en/technical-documentation/data-sheets/285678fg.pdf
footprint DFN-10-1EP_3x3mm_P0.5mm_EP1.65x2.38mm
pins: 1 RO (out), 2 ~{{RE}} (in), 3 DE (in), 4 DI (in), 5 GND (power), 6 Y (out), 7 Z (out), 8 B (in), 9 A (in), 10 VCC (power), 11 GND hidden

## LTC2858xDD-2
designator *  value LTC2858xDD-2
ki_keywords: RS485 RS422 transceiver full duplex; ki_description: RS-485, RS-422 Full duplex 250kbps transceiver, DFN-10; ki_fp_filters: DFN*3x3mm*P0.5mm*; Footprint: Package_DFN_QFN:DFN-10-1EP_3x3mm_P0.5mm_EP1.65x2.38mm; Supplier: https://www.analog.com/media/en/technical-documentation/data-sheets/285678fg.pdf
footprint DFN-10-1EP_3x3mm_P0.5mm_EP1.65x2.38mm
pins: 1 RO (out), 2 ~{{RE}} (in), 3 DE (in), 4 DI (in), 5 GND (power), 6 Y (out), 7 Z (out), 8 B (in), 9 A (in), 10 VCC (power), 11 GND hidden

## LTC2858xMS-1
designator *  value LTC2858xMS-1
ki_keywords: RS485 RS422 transceiver full duplex; ki_description: RS-485, RS-422 Full duplex 20Mbps transceiver, MSOP-10; ki_fp_filters: MSOP*3x3mm*P0.5mm*; Footprint: Package_SO:MSOP-10_3x3mm_P0.5mm; Supplier: https://www.analog.com/media/en/technical-documentation/data-sheets/285678fg.pdf
footprint MSOP-10_3x3mm_P0.5mm
pins: 1 RO (out), 2 ~{{RE}} (in), 3 DE (in), 4 DI (in), 5 GND (power), 6 Y (out), 7 Z (out), 8 B (in), 9 A (in), 10 VCC (power)

## LTC2858xMS-2
designator *  value LTC2858xMS-2
ki_keywords: RS485 RS422 transceiver full duplex; ki_description: RS-485, RS-422 Full duplex 250kbps transceiver, MSOP-10; ki_fp_filters: MSOP*3x3mm*P0.5mm*; Footprint: Package_SO:MSOP-10_3x3mm_P0.5mm; Supplier: https://www.analog.com/media/en/technical-documentation/data-sheets/285678fg.pdf
footprint MSOP-10_3x3mm_P0.5mm
pins: 1 RO (out), 2 ~{{RE}} (in), 3 DE (in), 4 DI (in), 5 GND (power), 6 Y (out), 7 Z (out), 8 B (in), 9 A (in), 10 VCC (power)

## LTC2861
designator *  value LTC2861
ki_keywords: RS485; ki_description: 20Mbps RS485 transceiver with tntegrated switchable termination; ki_fp_filters: SSOP*; Footprint: Package_SO:SSOP-28_5.3x10.2mm_P0.65mm; Supplier: linear-tec\ltc2859-2861.pdf
footprint SSOP-28_5.3x10.2mm_P0.65mm
pins: 1 RO (out), 2 RE (in), 3 DE (in), 4 DI (in), 5 TE (in), 6 GND (power), 11 SLO (in), 12 Y (out), 13 ~{{Z}} (out), 14 ~{{B}} (in), 15 A (in), 16 VCC (power)

## MAX202
designator *  value MAX202
ki_keywords: rs232 uart transceiver line-driver; ki_description: Dual RS232 driver/receiver, 5V supply, 120kb/s, 0C-70C; ki_fp_filters: SOIC*P1.27mm* DIP*W7.62mm* TSSOP*4.4x5mm*P0.65mm*; Supplier: http://www.ti.com/lit/ds/symlink/max202.pdf
pins: 1 C1+, 2 VS+ (power), 3 C1-, 4 C2+, 5 C2-, 6 VS- (power), 7 T2OUT (out), 8 R2IN (in), 9 R2OUT (out), 10 T2IN (in), 11 T1IN (in), 12 R1OUT (out), 13 R1IN (in), 14 T1OUT (out), 15 GND (power), 16 VCC (power)
text: LOGIC; RS232

## MAX232
designator *  value MAX232
ki_keywords: rs232 uart transceiver line-driver; ki_description: Dual RS232 driver/receiver, 5V supply, 120kb/s, 0C-70C; ki_fp_filters: SOIC*P1.27mm* DIP*W7.62mm* TSSOP*4.4x5mm*P0.65mm*; Supplier: http://www.ti.com/lit/ds/symlink/max232.pdf
pins: 1 C1+, 2 VS+ (power), 3 C1-, 4 C2+, 5 C2-, 6 VS- (power), 7 T2OUT (out), 8 R2IN (in), 9 R2OUT (out), 10 T2IN (in), 11 T1IN (in), 12 R1OUT (out), 13 R1IN (in), 14 T1OUT (out), 15 GND (power), 16 VCC (power)
text: LOGIC; RS232

## MAX232I
designator *  value MAX232I
ki_keywords: rs232 uart transceiver line-driver; ki_description: Dual RS232 driver/receiver, 5V supply, 120kb/s, -40C-80C; ki_fp_filters: SOIC*P1.27mm* DIP*W7.62mm* TSSOP*4.4x5mm*P0.65mm*; Supplier: http://www.ti.com/lit/ds/symlink/max232.pdf
pins: 1 C1+, 2 VS+ (power), 3 C1-, 4 C2+, 5 C2-, 6 VS- (power), 7 T2OUT (out), 8 R2IN (in), 9 R2OUT (out), 10 T2IN (in), 11 T1IN (in), 12 R1OUT (out), 13 R1IN (in), 14 T1OUT (out), 15 GND (power), 16 VCC (power)
text: LOGIC; RS232

## MAX481E
designator *  value MAX481E
ki_keywords: Half duplex RS-485/RS-422, 2.5 Mbps, ±15kV electro-static discharge (ESD) protection, no slew-rate, with low-power shutdown, with receiver/driver enable, 32 receiver drive kapacitity, DIP-8 and SOIC-8; ki_fp_filters: DIP*W7.62mm* SOIC*3.9x4.9mm*P1.27mm*; Supplier: https://datasheets.maximintegrated.com/en/ds/MAX1487E-MAX491E.pdf; ki_description: Half duplex RS-485/RS-422, 2.5 Mbps, ±15kV electro-static discharge (ESD) protection, no slew-rate, with low-power shutdown, with receiver/driver enable, 32 receiver drive kapacitity, DIP-8 and SOIC-8
pins: 1 RO (out), 2 ~{{RE}} (in), 3 DE (in), 4 DI (in), 5 GND (power), 6 A (io), 7 B (io), 8 VCC (power)

## MAX483E
designator *  value MAX483E
ki_keywords: Half duplex RS-485/RS-422, 0.25 Mbps, ±15kV electro-static discharge (ESD) protection, with slew-rate, with low-power shutdown, with receiver/driver enable, 32 receiver drive kapacitity, DIP-8 and SOIC-8; ki_fp_filters: DIP*W7.62mm* SOIC*3.9x4.9mm*P1.27mm*; Supplier: https://datasheets.maximintegrated.com/en/ds/MAX1487E-MAX491E.pdf; ki_description: Half duplex RS-485/RS-422, 0.25 Mbps, ±15kV electro-static discharge (ESD) protection, with slew-rate, with low-power shutdown, with receiver/driver enable, 32 receiver drive kapacitity, DIP-8 and SOIC-8
pins: 1 RO (out), 2 ~{{RE}} (in), 3 DE (in), 4 DI (in), 5 GND (power), 6 A (io), 7 B (io), 8 VCC (power)

## MAX485E
designator *  value MAX485E
ki_keywords: Half duplex RS-485/RS-422, 2.5 Mbps, ±15kV electro-static discharge (ESD) protection, no slew-rate, no low-power shutdown, with receiver/driver enable, 32 receiver drive kapacitity, DIP-8 and SOIC-8; ki_fp_filters: DIP*W7.62mm* SOIC*3.9x4.9mm*P1.27mm*; Supplier: https://datasheets.maximintegrated.com/en/ds/MAX1487E-MAX491E.pdf; ki_description: Half duplex RS-485/RS-422, 2.5 Mbps, ±15kV electro-static discharge (ESD) protection, no slew-rate, no low-power shutdown, with receiver/driver enable, 32 receiver drive kapacitity, DIP-8 and SOIC-8
pins: 1 RO (out), 2 ~{{RE}} (in), 3 DE (in), 4 DI (in), 5 GND (power), 6 A (io), 7 B (io), 8 VCC (power)

## MAX487E
designator *  value MAX487E
ki_keywords: Half duplex RS-485/RS-422, 0.25 Mbps, ±15kV electro-static discharge (ESD) protection, with slew-rate, with low-power shutdown, with receiver/driver enable, 128 receiver drive kapacitity, DIP-8 and SOIC-8; ki_fp_filters: DIP*W7.62mm* SOIC*3.9x4.9mm*P1.27mm*; Supplier: https://datasheets.maximintegrated.com/en/ds/MAX1487E-MAX491E.pdf; ki_description: Half duplex RS-485/RS-422, 0.25 Mbps, ±15kV electro-static discharge (ESD) protection, with slew-rate, with low-power shutdown, with receiver/driver enable, 128 receiver drive kapacitity, DIP-8 and SOIC-8
pins: 1 RO (out), 2 ~{{RE}} (in), 3 DE (in), 4 DI (in), 5 GND (power), 6 A (io), 7 B (io), 8 VCC (power)

## MAX488E
designator *  value MAX488E
ki_keywords: Full duplex RS-485/RS-422, 0.25 Mbps, ±15kV electro-static discharge (ESD) protection, slew-rate limited, no low-power shutdown, no with receiver/driver enable, 32 receiver drive kapacitity, 0 to +70 degree Celsius, DIP-8 and SOIC-8; ki_fp_filters: DIP*W7.62mm* SOIC*3.9x4.9mm*P1.27mm*; Supplier: https://datasheets.maximintegrated.com/en/ds/MAX1487E-MAX491E.pdf; ki_description: Full duplex RS-485/RS-422, 0.25 Mbps, ±15kV electro-static discharge (ESD) protection, slew-rate limited, no low-power shutdown, no with receiver/driver enable, 32 receiver drive kapacitity, 0 to +70 degree Celsius, DIP-8 and SOIC-8
pins: 1 VCC (power), 2 RO (out), 3 DI (in), 4 GND (power), 5 Y (out), 6 Z (out), 7 B (in), 8 A (in)

## MAX489E
designator *  value MAX489E
ki_keywords: Full duplex RS-485/RS-422, 0.25 Mbps, ±15kV electro-static discharge (ESD) protection, slew-rate limited, no low-power shutdown, with with receiver/driver enable, 32 receiver drive kapacitity, 0 to +70 degree Celsius, DIP-14 and SOIC-14; ki_fp_filters: DIP*W7.62mm* SOIC*3.9x8.7mm*P1.27mm*; Supplier: https://datasheets.maximintegrated.com/en/ds/MAX1487E-MAX491E.pdf; ki_description: Full duplex RS-485/RS-422, 0.25 Mbps, ±15kV electro-static discharge (ESD) protection, slew-rate limited, no low-power shutdown, with with receiver/driver enable, 32 receiver drive kapacitity, 0 to +70 degree Celsius, DIP-14 and SOIC-14
pins: 1 NC (in) hidden, 2 RO (out), 3 ~{{RE}} (in), 4 DE (in), 5 DI (in), 6 GND (power), 7 GND (power), 8 NC (in) hidden, 9 Y (out), 10 Z (out), 11 B (in), 12 A (in), 13 NC (in) hidden, 14 VCC (power)

## MAX490E
designator *  value MAX490E
ki_keywords: Full duplex RS-485/RS-422, 2.5 Mbps, ±15kV electro-static discharge (ESD) protection, no slew-rate limited, no low-power shutdown, no with receiver/driver enable, 32 receiver drive kapacitity, -40 to +85 degree Celsius, DIP-8 and SOIC-8; ki_fp_filters: DIP*W7.62mm* SOIC*3.9x4.9mm*P1.27mm*; Supplier: https://datasheets.maximintegrated.com/en/ds/MAX1487E-MAX491E.pdf; ki_description: Full duplex RS-485/RS-422, 2.5 Mbps, ±15kV electro-static discharge (ESD) protection, no slew-rate limited, no low-power shutdown, no with receiver/driver enable, 32 receiver drive kapacitity, -40 to +85 degree Celsius, DIP-8 and SOIC-8
pins: 1 VCC (power), 2 RO (out), 3 DI (in), 4 GND (power), 5 Y (out), 6 Z (out), 7 B (in), 8 A (in)

## MAX491E
designator *  value MAX491E
ki_keywords: Full duplex RS-485/RS-422, 2.5 Mbps, ±15kV electro-static discharge (ESD) protection, no slew-rate limited, no low-power shutdown, with receiver/driver enable, 32 receiver drive kapacitity, 0 to +70 degree Celsius, DIP-14 and SOIC-14; ki_fp_filters: DIP*W7.62mm* SOIC*3.9x8.7mm*P1.27mm*; Supplier: https://datasheets.maximintegrated.com/en/ds/MAX1487E-MAX491E.pdf; ki_description: Full duplex RS-485/RS-422, 2.5 Mbps, ±15kV electro-static discharge (ESD) protection, no slew-rate limited, no low-power shutdown, with receiver/driver enable, 32 receiver drive kapacitity, 0 to +70 degree Celsius, DIP-14 and SOIC-14
pins: 1 NC (in) hidden, 2 RO (out), 3 ~{{RE}} (in), 4 DE (in), 5 DI (in), 6 GND (power), 7 GND (power), 8 NC (in) hidden, 9 Y (out), 10 Z (out), 11 B (in), 12 A (in), 13 NC (in) hidden, 14 VCC (power)

## MAX1487E
designator *  value MAX1487E
ki_keywords: Half duplex RS-485/RS-422, 2.5 Mbps, ±15kV electro-static discharge (ESD) protection, no slew-rate, no low-power shutdown, with receiver/driver enable, 128 receiver drive kapacitity, DIP-8 and SOIC-8; ki_fp_filters: DIP*W7.62mm* SOIC*3.9x4.9mm*P1.27mm*; Supplier: https://datasheets.maximintegrated.com/en/ds/MAX1487E-MAX491E.pdf; ki_description: Half duplex RS-485/RS-422, 2.5 Mbps, ±15kV electro-static discharge (ESD) protection, no slew-rate, no low-power shutdown, with receiver/driver enable, 128 receiver drive kapacitity, DIP-8 and SOIC-8
pins: 1 RO (out), 2 ~{{RE}} (in), 3 DE (in), 4 DI (in), 5 GND (power), 6 A (io), 7 B (io), 8 VCC (power)

## MAX3051
designator *  value MAX3051
ki_keywords: High-Speed CAN Transceiver; ki_description: High-Speed CAN Transceiver, 1Mbps, 3.3V supply; ki_fp_filters: SOT?23* SOIC*; Supplier: http://datasheets.maximintegrated.com/en/ds/MAX3051.pdf
pins: 1 TXD (in), 2 GND (power), 3 VDD (power), 4 RXD (out), 5 SHDN (in), 6 CANL (io), 7 CANH (io), 8 RS (in)

## MAX3072E
designator *  value MAX3072E
ki_keywords: Low Power Half-Duplex RS-485 RS-422 Transceiver; ki_description: +3.3V, ±15kV ESD-Protected, Fail-Safe, Hot-Swap, RS-485/RS-422 Transceivers, SOIC-8; ki_fp_filters: SOIC*3.9x4.9mm*P1.27mm*; Footprint: Package_SO:SOIC-8_3.9x4.9mm_P1.27mm; Supplier: https://datasheets.maximintegrated.com/en/ds/MAX3070E-MAX3079E.pdf
footprint SOIC-8_3.9x4.9mm_P1.27mm
pins: 1 RO (out), 2 ~{{RE}} (in), 3 DE (in), 4 DI (in), 5 GND (power), 6 A (io), 7 B (io), 8 VCC (power)

## MAX3075E
designator *  value MAX3075E
ki_keywords: Low Power Half-Duplex RS-485 RS-422 Transceiver; ki_description: +3.3V, ±15kV ESD-Protected, Fail-Safe, Hot-Swap, RS-485/RS-422 Transceivers, SOIC-8; ki_fp_filters: SOIC*3.9x4.9mm*P1.27mm*; Footprint: Package_SO:SOIC-8_3.9x4.9mm_P1.27mm; Supplier: https://datasheets.maximintegrated.com/en/ds/MAX3070E-MAX3079E.pdf
footprint SOIC-8_3.9x4.9mm_P1.27mm
pins: 1 RO (out), 2 ~{{RE}} (in), 3 DE (in), 4 DI (in), 5 GND (power), 6 A (io), 7 B (io), 8 VCC (power)

## MAX3078E
designator *  value MAX3078E
ki_keywords: Low Power Half-Duplex RS-485 RS-422 Transceiver; ki_description: +3.3V, ±15kV ESD-Protected, Fail-Safe, Hot-Swap, RS-485/RS-422 Transceivers, SOIC-8; ki_fp_filters: SOIC*3.9x4.9mm*P1.27mm*; Footprint: Package_SO:SOIC-8_3.9x4.9mm_P1.27mm; Supplier: https://datasheets.maximintegrated.com/en/ds/MAX3070E-MAX3079E.pdf
footprint SOIC-8_3.9x4.9mm_P1.27mm
pins: 1 RO (out), 2 ~{{RE}} (in), 3 DE (in), 4 DI (in), 5 GND (power), 6 A (io), 7 B (io), 8 VCC (power)